# Altium footprint library Inductors.PcbLib: 3 footprints
Each footprint in its own frame and in the unit in brackets; x right, y up, seen from the top. Pads: shape width x height; smd on the part's side, far side on the other; paste and mask are expansions set on the pad; w line width, h text height; cw(c..) or ccw(c..) is an arc to the next point about the centre after c.
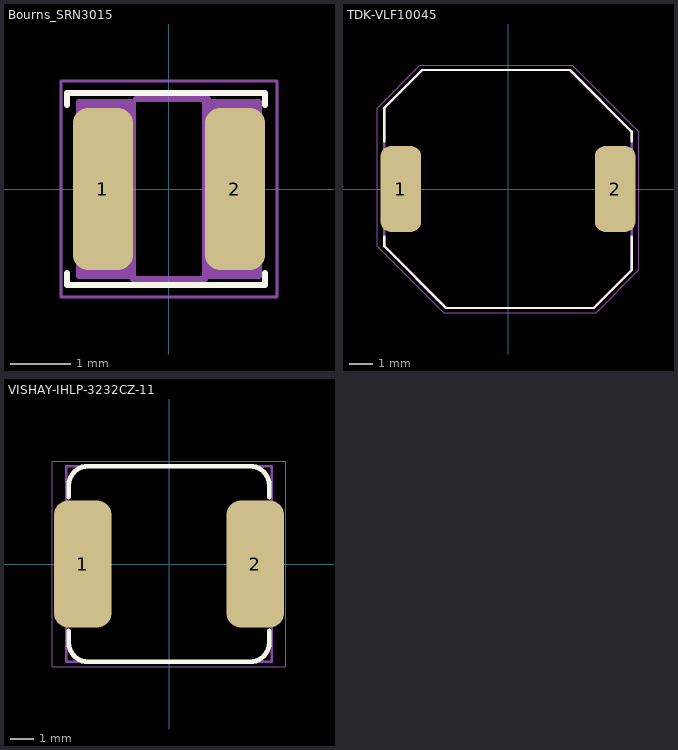
[diagram p0: the footprints below, top view; thin cyan lines are the x and y axes]

## Bourns_SRN3015 [mm]
pads (2):
  rrect50% 1x2.7 smd mask+0: 1(-1.1,0) 2(1.1,0)
Top Overlay:
  lines w0.1: -1.7,-1.4 -1.7,-1.6 1.6,-1.6 1.6,-1.4 ; -1.7,1.4 -1.7,1.6 1.6,1.6 1.6,1.4
Mechanical 13:
  region: -0.6,-1.45 -0.6,1.45 -1.5,1.45 -1.5,-1.45
  region: 1.5,-1.45 1.5,1.45 0.6,1.45 0.6,-1.45
  lines w0.1: -0.6,-1.5 0.6,-1.5 ; -0.55,1.5 0.65,1.5 ; -1.5,-1.45 -1.5,1.45 -0.6,1.45 -0.6,-1.45 -1.5,-1.45 ; 0.6,-1.45 1.5,-1.45 1.5,1.45 0.6,1.45 0.6,-1.45
Mechanical 15:
  lines w0.05: -1.8,-1.8 -1.8,1.8 1.8,1.8 1.8,-1.8 -1.8,-1.8
  text ".Designator" at -1.6,-0.2 h0.75
3D body "srn3015.stp": height 1.5, standoff 0, extent -1.5,-1.5 1.5,1.5

## TDK-VLF10045 [mm]
pads (2):
  rrect50% 1.7x3.6 smd: 1(-4.5,0) 2(4.5,0)
Top Overlay:
  lines w0.1: -5.2,-2 -5.2,-2.4 -2.6,-5 0,-5 3.6,-5 5.2,-3.4 5.2,-2 ; -5.2,2 -5.2,3.4 -3.6,5 0,5 2.6,5 5.2,2.4 5.2,2
Mechanical 13:
  region: 5.2,1.5 3.9,1.5 3.9,-1.5 5.2,-1.5
  rectangle: -5.2,-1.5 -3.9,1.5
  lines w0.1: -5.2,-2.4 -5.2,3.4 -3.6,5 2.6,5 5.2,2.4 5.2,-3.4 3.6,-5 -2.6,-5 -5.2,-2.4
Mechanical 15:
  lines w0.05: -5.5,-2.4 -5.5,3.4 -3.7,5.2 2.7,5.2 5.5,2.4 5.5,-3.4 3.7,-5.2 -2.7,-5.2 -5.5,-2.4
  text ".Designator" at -4.3,-0.4 h2
3D body "User Library-SMD Inductor TDK VLF10045T.step": height 4.7, standoff 0, extent -5.2,-5.1 5.2,5

## VISHAY-IHLP-3232CZ-11 [mil]
pads (2):
  rrect50% 95x210 smd mask+0: 1(-142.5,0) 2(142.5,0)
Top Overlay:
  lines w7.87: -165.35,-110.24 -165.35,-129.92 ccw(c-133.86,-129.92) -133.86,-161.42 0,-161.42 133.86,-161.42 ccw(c133.86,-129.92) 165.35,-129.92 165.35,-110.24 ; -165.35,110.24 -165.35,129.92 cw(c-133.86,129.92) -133.86,161.42 0,161.42 133.86,161.42 cw(c133.86,129.92) 165.35,129.92 165.35,110.24
Mechanical 13:
  region: 115,100 115,-100 169,-100 169,100
  region: -115,-100 -115,100 -169,100 -169,-100
  lines w3.94: -169.29,-161.3 -169.29,161.3 169.32,161.3 169.32,-161.3 -169.29,-161.3
Mechanical 15:
  lines w1.97: -192.91,-169.29 192.91,-169.29 192.91,169.29 -192.91,169.29 -192.91,-169.29
  text ".Designator" at -169.29,-15.75 h78.74
3D body "IHLP3232CZ.STEP": height 113.5, standoff 0, extent -169.29,-161.3 169.32,161.3